# Altium footprint library Resistor_SMD.PcbLib: 67 footprints (part 2 of 5)
Each footprint in its own frame and in the unit in brackets; x right, y up, seen from the top. Pads: shape width x height; smd on the part's side, far side on the other; paste and mask are expansions set on the pad; w line width, h text height; cw(c..) or ccw(c..) is an arc to the next point about the centre after c.
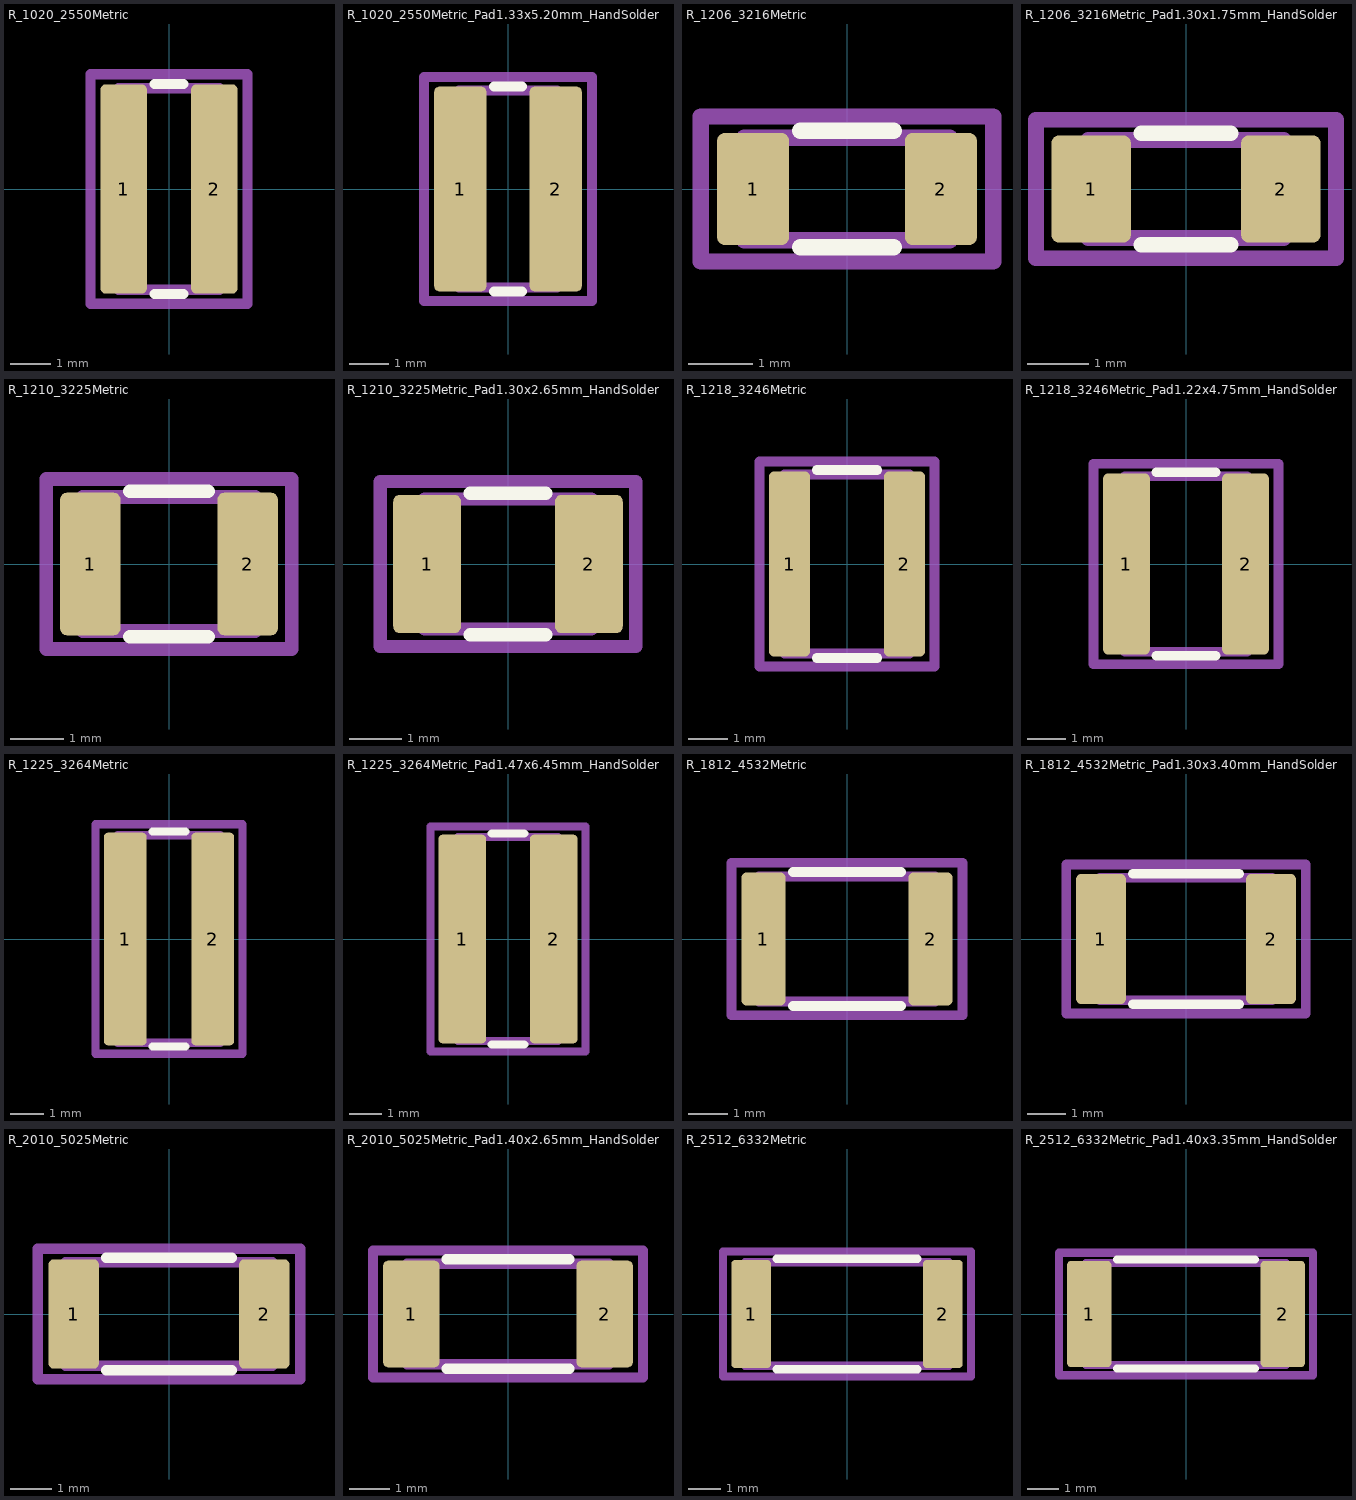
[diagram p1: the footprints below, top view; thin cyan lines are the x and y axes]

## R_1020_2550Metric [mm]
pads (2):
  rrect22% 1.15x5.2 smd: 1(-1.125,0) 2(1.125,0)
F.SilkS:
  lines w0.254: -0.361,-2.61 0.361,-2.61 ; -0.361,2.61 0.361,2.61
F.CrtYd:
  lines w0.254: -1.95,-2.85 -1.95,2.85 1.95,2.85 1.95,-2.85 -1.95,-2.85
F.Fab:
  lines w0.254: -1.25,-2.5 -1.25,2.5 1.25,2.5 1.25,-2.5 -1.25,-2.5
  text "'.Designator'" at -2.506,-0.518 h0.62

## R_1020_2550Metric_Pad1.33x5.20mm_HandSolder [mm]
pads (2):
  rrect19% 1.325x5.2 smd: 1(-1.212,0) 2(1.212,0)
F.SilkS:
  lines w0.254: -0.361,-2.61 0.361,-2.61 ; -0.361,2.61 0.361,2.61
F.CrtYd:
  lines w0.254: -2.13,-2.85 -2.13,2.85 2.13,2.85 2.13,-2.85 -2.13,-2.85
F.Fab:
  lines w0.254: -1.25,-2.5 -1.25,2.5 1.25,2.5 1.25,-2.5 -1.25,-2.5
  text "'.Designator'" at -2.506,-0.518 h0.62

## R_1206_3216Metric [mm]
pads (2):
  rrect22% 1.125x1.75 smd: 1(-1.462,0) 2(1.462,0)
F.SilkS:
  lines w0.254: -0.727,-0.91 0.727,-0.91 ; -0.727,0.91 0.727,0.91
F.CrtYd:
  lines w0.254: -2.28,-1.13 -2.28,1.13 2.28,1.13 2.28,-1.13 -2.28,-1.13
F.Fab:
  lines w0.254: -1.6,-0.8 -1.6,0.8 1.6,0.8 1.6,-0.8 -1.6,-0.8
  text "'.Designator'" at -3.237,-0.672 h0.8

## R_1206_3216Metric_Pad1.30x1.75mm_HandSolder [mm]
pads (2):
  rrect19% 1.3x1.75 smd: 1(-1.55,0) 2(1.55,0)
F.SilkS:
  lines w0.254: -0.727,-0.91 0.727,-0.91 ; -0.727,0.91 0.727,0.91
F.CrtYd:
  lines w0.254: -2.45,-1.13 -2.45,1.13 2.45,1.13 2.45,-1.13 -2.45,-1.13
F.Fab:
  lines w0.254: -1.6,-0.8 -1.6,0.8 1.6,0.8 1.6,-0.8 -1.6,-0.8
  text "'.Designator'" at -3.237,-0.672 h0.8

## R_1210_3225Metric [mm]
pads (2):
  rrect22% 1.125x2.65 smd: 1(-1.462,0) 2(1.462,0)
F.SilkS:
  lines w0.254: -0.724,-1.355 0.724,-1.355 ; -0.724,1.355 0.724,1.355
F.CrtYd:
  lines w0.254: -2.28,-1.58 -2.28,1.58 2.28,1.58 2.28,-1.58 -2.28,-1.58
F.Fab:
  lines w0.254: -1.6,-1.245 -1.6,1.245 1.6,1.245 1.6,-1.245 -1.6,-1.245
  text "'.Designator'" at -3.237,-0.672 h0.8

## R_1210_3225Metric_Pad1.30x2.65mm_HandSolder [mm]
pads (2):
  rrect19% 1.3x2.65 smd: 1(-1.55,0) 2(1.55,0)
F.SilkS:
  lines w0.254: -0.724,-1.355 0.724,-1.355 ; -0.724,1.355 0.724,1.355
F.CrtYd:
  lines w0.254: -2.45,-1.58 -2.45,1.58 2.45,1.58 2.45,-1.58 -2.45,-1.58
F.Fab:
  lines w0.254: -1.6,-1.245 -1.6,1.245 1.6,1.245 1.6,-1.245 -1.6,-1.245
  text "'.Designator'" at -3.237,-0.672 h0.8

## R_1218_3246Metric [mm]
pads (2):
  rrect24% 1.05x4.75 smd: 1(-1.475,0) 2(1.475,0)
F.SilkS:
  lines w0.254: -0.777,-2.41 0.777,-2.41 ; -0.777,2.41 0.777,2.41
F.CrtYd:
  lines w0.254: -2.25,-2.63 -2.25,2.63 2.25,2.63 2.25,-2.63 -2.25,-2.63
F.Fab:
  lines w0.254: -1.6,-2.3 -1.6,2.3 1.6,2.3 1.6,-2.3 -1.6,-2.3
  text "'.Designator'" at -3.237,-0.672 h0.8

## R_1218_3246Metric_Pad1.22x4.75mm_HandSolder [mm]
pads (2):
  rrect20% 1.225x4.75 smd: 1(-1.562,0) 2(1.562,0)
F.SilkS:
  lines w0.254: -0.777,-2.41 0.777,-2.41 ; -0.777,2.41 0.777,2.41
F.CrtYd:
  lines w0.254: -2.43,-2.63 -2.43,2.63 2.43,2.63 2.43,-2.63 -2.43,-2.63
F.Fab:
  lines w0.254: -1.6,-2.3 -1.6,2.3 1.6,2.3 1.6,-2.3 -1.6,-2.3
  text "'.Designator'" at -3.237,-0.672 h0.8

## R_1225_3264Metric [mm]
pads (2):
  rrect19% 1.3x6.45 smd: 1(-1.325,0) 2(1.325,0)
F.SilkS:
  lines w0.254: -0.502,-3.26 0.502,-3.26 ; -0.502,3.26 0.502,3.26
F.CrtYd:
  lines w0.254: -2.23,-3.48 -2.23,3.48 2.23,3.48 2.23,-3.48 -2.23,-3.48
F.Fab:
  lines w0.254: -1.55,-3.15 -1.55,3.15 1.55,3.15 1.55,-3.15 -1.55,-3.15
  text "'.Designator'" at -3.159,-0.658 h0.78

## R_1225_3264Metric_Pad1.47x6.45mm_HandSolder [mm]
pads (2):
  rrect17% 1.475x6.45 smd: 1(-1.412,0) 2(1.412,0)
F.SilkS:
  lines w0.254: -0.502,-3.26 0.502,-3.26 ; -0.502,3.26 0.502,3.26
F.CrtYd:
  lines w0.254: -2.4,-3.48 -2.4,3.48 2.4,3.48 2.4,-3.48 -2.4,-3.48
F.Fab:
  lines w0.254: -1.55,-3.15 -1.55,3.15 1.55,3.15 1.55,-3.15 -1.55,-3.15
  text "'.Designator'" at -3.159,-0.658 h0.78

## R_1812_4532Metric [mm]
pads (2):
  rrect22% 1.125x3.4 smd: 1(-2.137,0) 2(2.137,0)
F.SilkS:
  lines w0.254: -1.386,-1.71 1.386,-1.71 ; -1.386,1.71 1.386,1.71
F.CrtYd:
  lines w0.254: -2.95,-1.95 -2.95,1.95 2.95,1.95 2.95,-1.95 -2.95,-1.95
F.Fab:
  lines w0.254: -2.25,-1.6 -2.25,1.6 2.25,1.6 2.25,-1.6 -2.25,-1.6
  text "'.Designator'" at -4.047,-0.84 h1

## R_1812_4532Metric_Pad1.30x3.40mm_HandSolder [mm]
pads (2):
  rrect19% 1.3x3.4 smd: 1(-2.225,0) 2(2.225,0)
F.SilkS:
  lines w0.254: -1.386,-1.71 1.386,-1.71 ; -1.386,1.71 1.386,1.71
F.CrtYd:
  lines w0.254: -3.13,-1.95 -3.13,1.95 3.13,1.95 3.13,-1.95 -3.13,-1.95
F.Fab:
  lines w0.254: -2.25,-1.6 -2.25,1.6 2.25,1.6 2.25,-1.6 -2.25,-1.6
  text "'.Designator'" at -4.047,-0.84 h1

## R_2010_5025Metric [mm]
pads (2):
  rrect20% 1.225x2.65 smd: 1(-2.312,0) 2(2.312,0)
F.SilkS:
  lines w0.254: -1.527,-1.36 1.527,-1.36 ; -1.527,1.36 1.527,1.36
F.CrtYd:
  lines w0.254: -3.18,-1.58 -3.18,1.58 3.18,1.58 3.18,-1.58 -3.18,-1.58
F.Fab:
  lines w0.254: -2.5,-1.25 -2.5,1.25 2.5,1.25 2.5,-1.25 -2.5,-1.25
  text "'.Designator'" at -4.047,-0.84 h1

## R_2010_5025Metric_Pad1.40x2.65mm_HandSolder [mm]
pads (2):
  rrect18% 1.4x2.65 smd: 1(-2.4,0) 2(2.4,0)
F.SilkS:
  lines w0.254: -1.527,-1.36 1.527,-1.36 ; -1.527,1.36 1.527,1.36
F.CrtYd:
  lines w0.254: -3.35,-1.58 -3.35,1.58 3.35,1.58 3.35,-1.58 -3.35,-1.58
F.Fab:
  lines w0.254: -2.5,-1.25 -2.5,1.25 2.5,1.25 2.5,-1.25 -2.5,-1.25
  text "'.Designator'" at -4.047,-0.84 h1

## R_2512_6332Metric [mm]
pads (2):
  rrect20% 1.225x3.35 smd: 1(-2.963,0) 2(2.963,0)
F.SilkS:
  lines w0.254: -2.177,-1.71 2.177,-1.71 ; -2.177,1.71 2.177,1.71
F.CrtYd:
  lines w0.254: -3.83,-1.93 -3.83,1.93 3.83,1.93 3.83,-1.93 -3.83,-1.93
F.Fab:
  lines w0.254: -3.15,-1.6 -3.15,1.6 3.15,1.6 3.15,-1.6 -3.15,-1.6
  text "'.Designator'" at -4.047,-0.84 h1

## R_2512_6332Metric_Pad1.40x3.35mm_HandSolder [mm]
pads (2):
  rrect18% 1.4x3.35 smd: 1(-3.05,0) 2(3.05,0)
F.SilkS:
  lines w0.254: -2.177,-1.71 2.177,-1.71 ; -2.177,1.71 2.177,1.71
F.CrtYd:
  lines w0.254: -4,-1.93 -4,1.93 4,1.93 4,-1.93 -4,-1.93
F.Fab:
  lines w0.254: -3.15,-1.6 -3.15,1.6 3.15,1.6 3.15,-1.6 -3.15,-1.6
  text "'.Designator'" at -4.047,-0.84 h1